# Altium footprint library PcbLib.PcbLib: 34 footprints (part 2 of 3)
Each footprint in its own frame and in the unit in brackets; x right, y up, seen from the top. Pads: shape width x height; smd on the part's side, far side on the other; paste and mask are expansions set on the pad; w line width, h text height; cw(c..) or ccw(c..) is an arc to the next point about the centre after c.
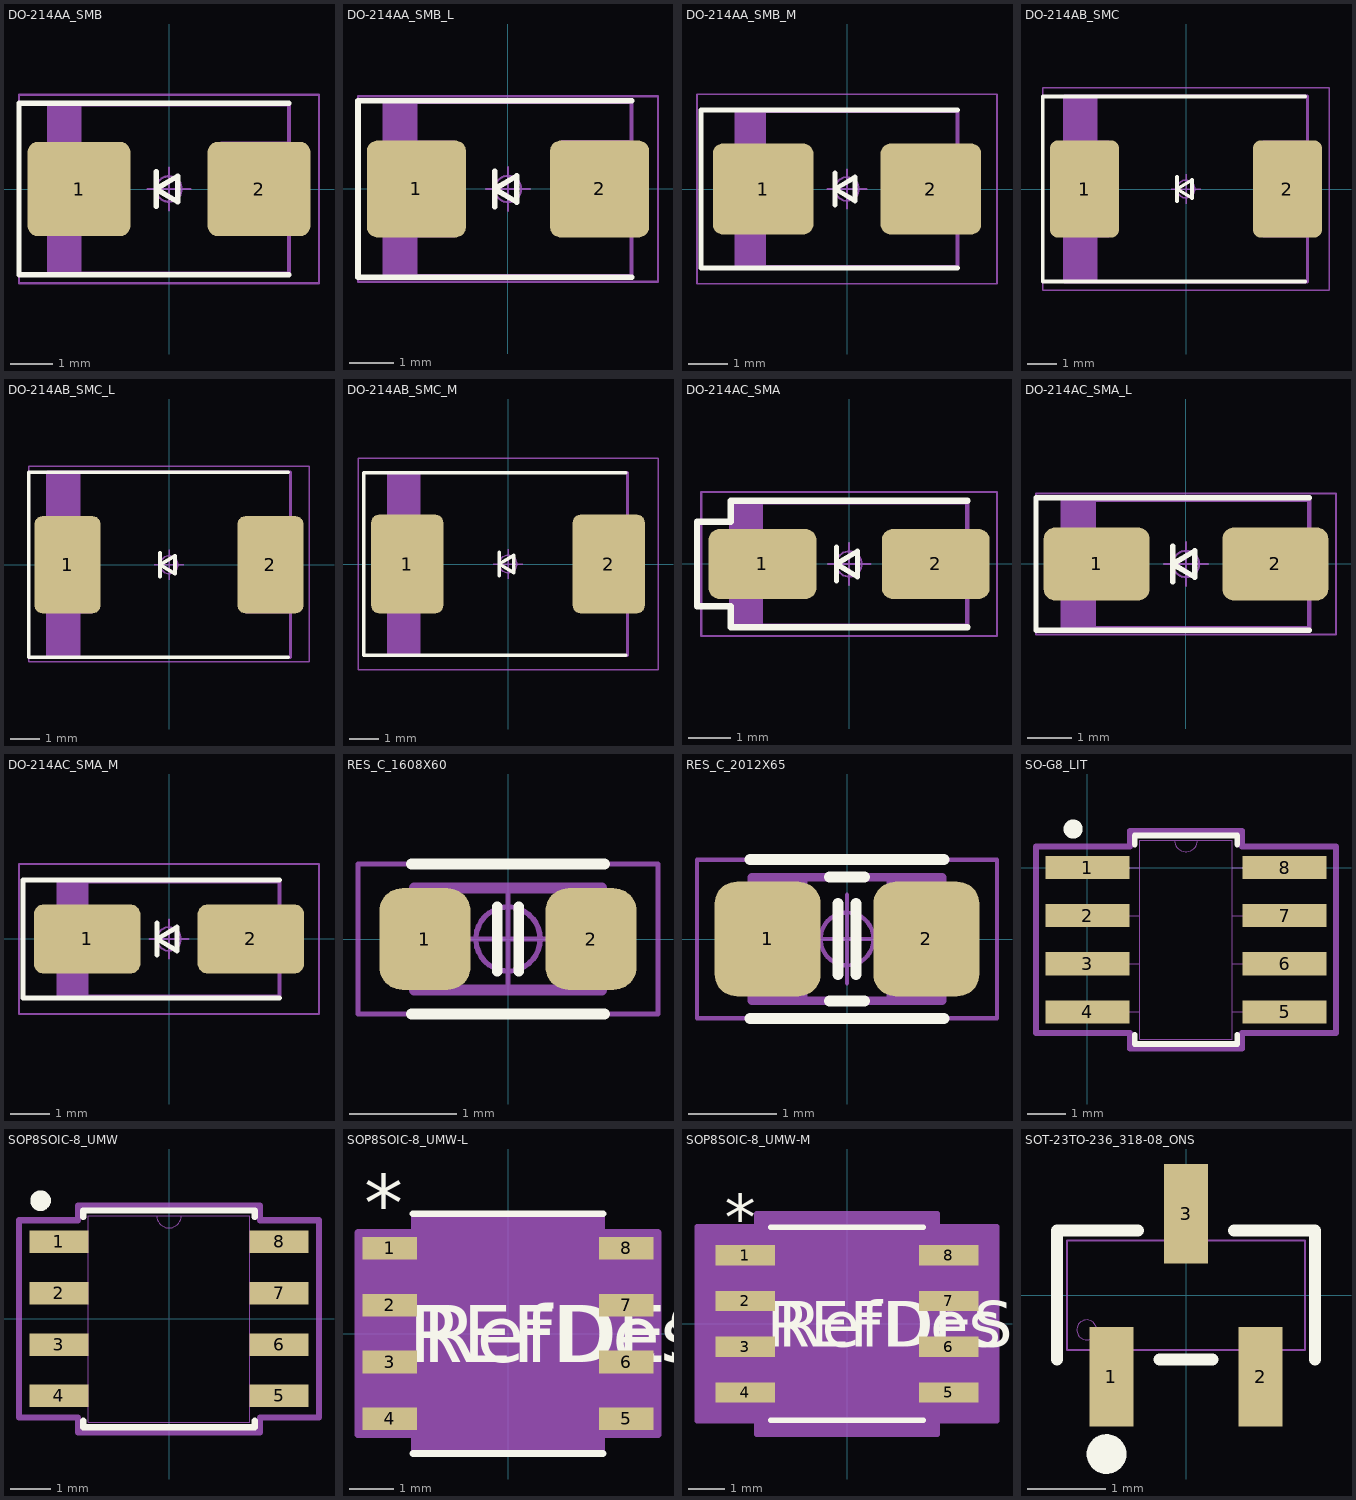
[diagram p1: the footprints below, top view; thin cyan lines are the x and y axes]

## DO-214AA_SMB [mm] "Molded Diode, 2-Leads, Body 5.40x3.63mm, IPC Medium Density"
height 2.47
pads (2):
  rrect22% 2.4x2.2 smd: 1(-2.1,0) 2(2.1,0)
Top Overlay:
  lines w0.12: 2.8,-2 -3.5,-2 -3.5,2 2.8,2
  lines w0.125: -0.3,-0.4 -0.3,0.4 ; -0.3,0 0.2,0.3 0.2,-0.3 -0.3,0
Top Assembly:
  rectangle: -2.8,-1.975 -2.047,1.975
  lines w0.1: -2.8,-1.975 -2.8,1.975 2.8,1.975 2.8,-1.975 -2.8,-1.975
  text "'.Designator'" at -3.952,-0.622 h1.5
Top Courtyard:
  lines w0.05: -3.5,-2.2 3.5,-2.2 3.5,2.2 -3.5,2.2 -3.5,-2.2
Top Component Outline:
  rectangle: -2.8,-1.1 -1.2,1.1
  region: 2.798,1.107 1.198,1.107 1.198,-1.093 2.798,-1.093
  lines w0.05: -2.8,-1.975 -2.8,1.975 2.8,1.975 2.8,-1.975 -2.8,-1.975
Top Component Center:
  circle w0.05: c0,0 r0.3
  lines w0.05: -0.5,0 0.5,0 ; 0,-0.5 0,0.5
3D body "5BT.STEP": height 2.44, standoff 0, extent -2.699,-1.81 2.699,1.81

## DO-214AA_SMB_L [mm] "Molded Diode, 2-Leads, Body 5.40x3.63mm, IPC Medium Density"
height 2.47
pads (2):
  rrect22% 2.25x2.2 smd: 1(-2.075,0) 2(2.075,0)
Top Overlay:
  lines w0.125: -0.3,-0.4 -0.3,0.4 ; 2.8,-2 -3.4,-2 -3.4,2 2.8,2 ; -0.3,0 0.2,-0.3 0.2,0.3 -0.3,0
Top Assembly:
  rectangle: -2.8,-1.975 -2.047,1.975
  lines w0.1: -2.8,-1.975 2.8,-1.975 2.8,1.975 -2.8,1.975 -2.8,-1.975
  text "'.Designator'" at -3.952,-0.622 h1.5
Top Courtyard:
  lines w0.05: -3.4,-2.1 3.4,-2.1 3.4,2.1 -3.4,2.1 -3.4,-2.1
Top Component Outline:
  rectangle: -2.8,-1.1 -1.2,1.1
  region: 2.798,1.107 1.198,1.107 1.198,-1.093 2.798,-1.093
  lines w0.05: -2.8,-1.975 -2.8,1.975 2.8,1.975 2.8,-1.975 -2.8,-1.975
Top Component Center:
  circle w0.05: c0,0 r0.3
  lines w0.05: -0.5,0 0.5,0 ; 0,-0.5 0,0.5
3D body "5BT.STEP": height 2.44, standoff 0, extent -2.699,-1.81 2.699,1.81

## DO-214AA_SMB_M [mm] "Molded Diode, 2-Leads, Body 5.40x3.63mm, IPC Medium Density"
height 2.47
pads (2):
  rrect21% 2.55x2.3 smd: 1(-2.125,0) 2(2.125,0)
Top Overlay:
  lines w0.125: -0.3,-0.4 -0.3,0.4 ; 2.8,-2 -3.7,-2 -3.7,2 2.8,2 ; -0.3,0 0.2,-0.3 0.2,0.3 -0.3,0
Top Assembly:
  rectangle: -2.8,-1.975 -2.047,1.975
  lines w0.1: -2.8,-1.975 -2.8,1.975 2.8,1.975 2.8,-1.975 -2.8,-1.975
  text "'.Designator'" at -3.952,-0.622 h1.5
Top Courtyard:
  lines w0.05: -3.8,-2.4 -3.8,2.4 3.8,2.4 3.8,-2.4 -3.8,-2.4
Top Component Outline:
  region: 2.798,1.107 1.198,1.107 1.198,-1.093 2.798,-1.093
  rectangle: -2.8,-1.1 -1.2,1.1
  lines w0.05: -2.8,-1.975 2.8,-1.975 2.8,1.975 -2.8,1.975 -2.8,-1.975
Top Component Center:
  circle w0.05: c0,0 r0.3
  lines w0.05: -0.5,0 0.5,0 ; 0,-0.5 0,0.5
3D body "5BT.STEP": height 2.44, standoff 0, extent -2.699,-1.81 2.699,1.81

## DO-214AB_SMC [mm] "Molded Diode, 2-Leads, Body 7.94x5.91mm, IPC Medium Density"
height 2.62
pads (2):
  rrect21% 2.3x3.25 smd: 1(-3.4,0) 2(3.4,0)
Top Overlay:
  lines w0.12: 4,-3.1 -4.8,-3.1 -4.8,3.1 4,3.1
  lines w0.125: -0.3,-0.4 -0.3,0.4 ; -0.3,0 0.2,-0.3 0.2,0.3 -0.3,0
Top Assembly:
  rectangle: -4.065,-3.11 -2.972,3.11
  lines w0.1: -4.065,-3.11 4.065,-3.11 4.065,3.11 -4.065,3.11 -4.065,-3.11
  text "'.Designator'" at -3.952,-0.622 h1.5
Top Courtyard:
  lines w0.05: -4.8,-3.4 4.8,-3.4 4.8,3.4 -4.8,3.4 -4.8,-3.4
Top Component Outline:
  region: 4.075,1.625 2.555,1.625 2.555,-1.625 4.075,-1.625
  rectangle: -4.075,-1.625 -2.555,1.625
  lines w0.05: -4.065,-3.11 4.065,-3.11 4.065,3.11 -4.065,3.11 -4.065,-3.11
Top Component Center:
  circle w0.05: c0,0 r0.3
  lines w0.05: -0.5,0 0.5,0 ; 0,-0.5 0,0.5
3D body "9AT.STEP": height 2.62, standoff 0, extent -3.969,-2.959 3.969,2.959

## DO-214AB_SMC_L [mm] "Molded Diode, 2-Leads, Body 7.94x5.91mm, IPC Medium Density"
height 2.62
pads (2):
  rrect22% 2.2x3.25 smd: 1(-3.4,0) 2(3.4,0)
Top Overlay:
  lines w0.12: 4,-3.1 -4.7,-3.1 -4.7,3.1 4,3.1
  lines w0.125: -0.3,-0.4 -0.3,0.4 ; -0.3,0 0.2,-0.3 0.2,0.3 -0.3,0
Top Assembly:
  rectangle: -4.065,-3.11 -2.972,3.11
  lines w0.1: -4.065,-3.11 4.065,-3.11 4.065,3.11 -4.065,3.11 -4.065,-3.11
  text "'.Designator'" at -3.952,-0.622 h1.5
Top Courtyard:
  lines w0.05: -4.7,-3.25 -4.7,3.3 4.7,3.3 4.7,-3.25 -4.7,-3.25
Top Component Outline:
  region: 4.075,1.625 2.555,1.625 2.555,-1.625 4.075,-1.625
  rectangle: -4.075,-1.625 -2.555,1.625
  lines w0.05: -4.065,-3.11 4.065,-3.11 4.065,3.11 -4.065,3.11 -4.065,-3.11
Top Component Center:
  circle w0.05: c0,0 r0.3
  lines w0.05: -0.5,0 0.5,0 ; 0,-0.5 0,0.5
3D body "9AT.STEP": height 2.62, standoff 0, extent -3.969,-2.959 3.969,2.959

## DO-214AB_SMC_M [mm] "Molded Diode, 2-Leads, Body 7.94x5.91mm, IPC Medium Density"
height 2.62
pads (2):
  rrect20% 2.45x3.35 smd: 1(-3.425,0) 2(3.425,0)
Top Overlay:
  lines w0.125: -0.3,-0.4 -0.3,0.4 ; 4,-3.1 -4.9,-3.1 -4.9,3.1 4,3.1 ; -0.3,0 0.2,-0.3 0.2,0.3 -0.3,0
Top Assembly:
  rectangle: -4.065,-3.11 -2.972,3.11
  lines w0.1: -4.065,-3.11 4.065,-3.11 4.065,3.11 -4.065,3.11 -4.065,-3.11
  text "'.Designator'" at -3.952,-0.622 h1.5
Top Courtyard:
  lines w0.05: -5.1,-3.6 -5.1,3.6 5.1,3.6 5.1,-3.6 -5.1,-3.6
Top Component Outline:
  region: 4.075,1.625 2.555,1.625 2.555,-1.625 4.075,-1.625
  rectangle: -4.075,-1.625 -2.555,1.625
  lines w0.05: -4.065,-3.11 4.065,-3.11 4.065,3.11 -4.065,3.11 -4.065,-3.11
Top Component Center:
  circle w0.05: c0,0 r0.3
  lines w0.05: -0.5,0 0.5,0 ; 0,-0.5 0,0.5
3D body "9AT.STEP": height 2.62, standoff 0, extent -3.969,-2.959 3.969,2.959

## DO-214AC_SMA [mm] "Molded Diode, 2-Leads, Body 5.20x2.61mm, IPC Medium Density"
height 2.4
pads (2):
  rrect30% 2.55x1.65 smd: 1(-2.05,0) 2(2.05,0)
Top Overlay:
  lines w0.125: -0.3,-0.4 -0.3,0.4 ; -0.3,0 0.2,-0.3 0.2,0.3 -0.3,0
  lines w0.15: 2.8,-1.5 -2.8,-1.5 -2.8,-1.4 -2.8,-1 -3.6,-1 -3.6,1 -2.8,1 -2.8,1.5 2.8,1.5
Top Assembly:
  rectangle: -2.795,-1.46 -2.043,1.46
  lines w0.1: -2.795,-1.46 -2.795,1.46 2.795,1.46 2.795,-1.46 -2.795,-1.46
  text "'.Designator'" at -3.952,-0.622 h1.5
Top Courtyard:
  lines w0.05: -3.5,-1.7 -3.5,1.7 3.5,1.7 3.5,-1.7 -3.5,-1.7
Top Component Outline:
  rectangle: -2.8,-0.815 -1.28,0.815
  region: 2.8,0.815 1.28,0.815 1.28,-0.815 2.8,-0.815
  lines w0.05: -2.795,-1.46 -2.795,1.46 2.795,1.46 2.795,-1.46 -2.795,-1.46
Top Component Center:
  circle w0.05: c0,0 r0.3
  lines w0.05: -0.5,0 0.5,0 ; 0,-0.5 0,0.5
3D body "SMAJ12A-13-F.step": height 2.4, standoff 0, extent -2.598,-1.302 2.598,1.302

## DO-214AC_SMA_L [mm] "Molded Diode, 2-Leads, Body 5.20x2.61mm, IPC Medium Density"
height 2.4
pads (2):
  rrect30% 2.4x1.65 smd: 1(-2.025,0) 2(2.025,0)
Top Overlay:
  lines w0.12: 2.8,-1.5 -3.4,-1.5 -3.4,1.5 2.8,1.5
  lines w0.125: -0.3,-0.4 -0.3,0.4 ; -0.3,0 0.2,-0.3 0.2,0.3 -0.3,0
Top Assembly:
  rectangle: -2.795,-1.46 -2.043,1.46
  lines w0.1: -2.795,-1.46 -2.795,1.46 2.795,1.46 2.795,-1.46 -2.795,-1.46
  text "'.Designator'" at -3.952,-0.622 h1.5
Top Courtyard:
  lines w0.05: -3.4,-1.6 3.4,-1.6 3.4,1.6 -3.4,1.6 -3.4,-1.6
Top Component Outline:
  rectangle: -2.8,-0.815 -1.28,0.815
  region: 2.8,0.815 1.28,0.815 1.28,-0.815 2.8,-0.815
  lines w0.05: -2.795,-1.46 -2.795,1.46 2.795,1.46 2.795,-1.46 -2.795,-1.46
Top Component Center:
  circle w0.05: c0,0 r0.3
  lines w0.05: -0.5,0 0.5,0 ; 0,-0.5 0,0.5
3D body "SMAJ12A-13-F.step": height 2.4, standoff 0, extent -2.598,-1.302 2.598,1.302

## DO-214AC_SMA_M [mm] "Molded Diode, 2-Leads, Body 5.20x2.61mm, IPC Medium Density"
height 2.4
pads (2):
  rrect28% 2.7x1.75 smd: 1(-2.075,0) 2(2.075,0)
Top Overlay:
  lines w0.125: -0.3,-0.4 -0.3,0.4 ; 2.8,-1.5 -3.7,-1.5 -3.7,1.5 2.8,1.5 ; -0.3,0 0.2,0.3 0.2,-0.3 -0.3,0
Top Assembly:
  rectangle: -2.795,-1.46 -2.043,1.46
  lines w0.1: -2.795,-1.46 2.795,-1.46 2.795,1.46 -2.795,1.46 -2.795,-1.46
  text "'.Designator'" at -3.952,-0.622 h1.5
Top Courtyard:
  lines w0.05: -3.8,-1.9 -3.8,1.9 3.8,1.9 3.8,-1.9 -3.8,-1.9
Top Component Outline:
  region: 2.8,0.815 1.28,0.815 1.28,-0.815 2.8,-0.815
  rectangle: -2.8,-0.815 -1.28,0.815
  lines w0.05: -2.795,-1.46 2.795,-1.46 2.795,1.46 -2.795,1.46 -2.795,-1.46
Top Component Center:
  circle w0.05: c0,0 r0.3
  lines w0.05: -0.5,0 0.5,0 ; 0,-0.5 0,0.5
3D body "SMAJ12A-13-F.step": height 2.4, standoff 0, extent -2.598,-1.302 2.598,1.302

## RES_C_1608X60 [mm] "Chip Resistor, 2-Leads, Body 1.63x0.83mm, IPC High Density"
height 0.6
pads (2):
  rrect50% 0.85x0.95 smd: 1(-0.775,0) 2(0.775,0)
Top Overlay:
  lines w0.1: -0.9,-0.7 0.9,-0.7 ; -0.9,0.7 0.9,0.7 ; -0.1,-0.3 -0.1,0.3 ; 0.1,-0.3 0.1,0.3
Top Assembly:
  lines w0.1: -0.875,-0.475 0.875,-0.475 0.875,0.475 -0.875,0.475 -0.875,-0.475
  text "'.Designator'" at -4.217,-0.663 h1.6
Top Courtyard:
  lines w0.05: -1.4,-0.7 1.4,-0.7 1.4,0.7 -1.4,0.7 -1.4,-0.7
Top Component Outline:
  rectangle: 0.475,-0.475 0.875,0.475
  rectangle: -0.875,-0.475 -0.475,0.475
  lines w0.05: -0.875,-0.475 -0.875,0.475 0.875,0.475 0.875,-0.475 -0.875,-0.475
Top Component Center:
  circle w0.05: c0,0 r0.3
  lines w0.05: -0.5,0 0.5,0 ; 0,-0.5 0,0.5
3D body "RESC1608X60.step": height 0.6, standoff 0, extent -0.875,-0.475 0.875,0.475

## RES_C_2012X65 [mm] "Chip Resistor, 2-Leads, Body 2.00x1.25mm, IPC High Density"
height 0.65
pads (2):
  rrect41% 1.2x1.3 smd: 1(-0.9,0) 2(0.9,0)
Top Overlay:
  lines w0.125: -1.1,-0.9 1.1,-0.9 ; -1.1,0.9 1.1,0.9 ; -0.2,-0.7 0.2,-0.7 ; -0.2,0.7 0.2,0.7 ; -0.1,-0.4 -0.1,0.4 ; 0.1,-0.4 0.1,0.4
Top Assembly:
  lines w0.1: -1.075,-0.7 -1.075,0.7 1.075,0.7 1.075,-0.7 -1.075,-0.7
  text "'.Designator'" at -4.217,-0.663 h1.6
Top Courtyard:
  lines w0.05: -1.7,-0.9 -1.7,0.9 1.7,0.9 1.7,-0.9 -1.7,-0.9
Top Component Outline:
  region: 1.1,0.7 0.45,0.7 0.45,-0.7 1.1,-0.7
  rectangle: -1.1,-0.7 -0.45,0.7
  lines w0.05: -1.1,-0.7 1.1,-0.7 1.1,0.7 -1.1,0.7 -1.1,-0.7
Top Component Center:
  circle w0.05: c0,0 r0.3
  lines w0.05: -0.5,0 0.5,0 ; 0,-0.5 0,0.5
3D body "RESC2012X65.step": height 0.65, standoff 0, extent -1.075,-0.7 1.075,0.7

## SO-G8_LIT [mil]
pads (8):
  rect 87x24 smd paste+0 mask+0: 1(0,0) 2(0,-50) 3(0,-100) 4(0,-150) 5(204.7,-150) 6(204.7,-100) 7(204.7,-50) 8(204.7,0)
Top Overlay:
  circle w10: c-15,40 r5
  lines w6: 49.13,-173.83 49.13,-183.32 155.57,-183.32 155.57,-173.83 ; 49.13,23.83 49.13,33.32 155.57,33.32 155.57,23.83
Mechanical 13:
  lines w1: 90.35,28.32 ccw(c102.35,28.32) 114.35,28.32 ; 0,-150 54.13,-150 0,-150 ; 0,-100 54.13,-100 0,-100 ; 0,-50 54.13,-50 0,-50 ; 0,0 54.13,0 0,0 ; 54.13,-178.32 150.57,-178.32 150.57,28.32 54.13,28.32 54.13,-178.32 ; 150.57,-150 204.7,-150 150.57,-150 ; 150.57,-100 204.7,-100 150.57,-100 ; 150.57,-50 204.7,-50 150.57,-50 ; 150.57,0 204.7,0 150.57,0
Mechanical 15:
  lines w6: -53.5,-172 -53.5,22 44.13,22 44.13,38.32 160.57,38.32 160.57,22 258.2,22 258.2,-172 160.57,-172 160.57,-188.32 44.13,-188.32 44.13,-172 -53.5,-172
3D body "SO-G8_LIT.step": height 205.12, standoff -100, extent -5,-178.31 219.69,28.31

## SOP8SOIC-8_UMW [mil]
pads (8):
  rect 57.5x22 smd paste+0 mask+0: 1(-107.25,75) 2(-107.25,25) 3(-107.25,-25) 4(-107.25,-75) 5(107.25,-75) 6(107.25,-25) 7(107.25,25) 8(107.25,75)
Top Overlay:
  circle w10: c-125,115 r5
  lines w6: -83.5,-99.1 -83.5,-105.5 83.5,-105.5 83.5,-99.1 ; -83.5,99.1 -83.5,105.5 83.5,105.5 83.5,99.1
Mechanical 13:
  lines w0: -12,100.5 ccw(c0,100.5) 12,100.5
  lines w1: -122,-85 -78.5,-85 -78.5,-65 -122,-65 -122,-85 ; -122,-35 -78.5,-35 -78.5,-15 -122,-15 -122,-35 ; -122,15 -78.5,15 -78.5,35 -122,35 -122,15 ; -122,65 -78.5,65 -78.5,85 -122,85 -122,65 ; -78.5,-100.5 -78.5,100.5 78.5,100.5 78.5,-100.5 -78.5,-100.5 ; 78.5,-85 122,-85 122,-65 78.5,-65 78.5,-85 ; 78.5,-35 122,-35 122,-15 78.5,-15 78.5,-35 ; 78.5,15 122,15 122,35 78.5,35 78.5,15 ; 78.5,65 122,65 122,85 78.5,85 78.5,65
  text "*" at -76,47.5 h50
Mechanical 15:
  lines w6: -146,-96 -88.5,-96 -88.5,-110.5 88.5,-110.5 88.5,-96 146,-96 146,96 88.5,96 88.5,110.5 -88.5,110.5 -88.5,96 -146,96 -146,-96
3D body "SOP8SOIC-8_UMW.step": height 69.09, standoff 0, extent -122.01,-100.51 122.01,100.51

## SOP8SOIC-8_UMW-L [mil]
pads (8):
  rect 48x20 smd paste+0 mask+0: 1(-104,75) 2(-104,25) 3(-104,-25) 4(-104,-75) 5(104,-75) 6(104,-25) 7(104,25) 8(104,75)
Top Overlay:
  lines w6: -83.5,-105.5 83.5,-105.5 ; -83.5,105.5 83.5,105.5
  text "REFDES" at -87.5,-25 h50
  text "*" at -126.5,90 h50
  text "RefDes" at -75,-25 h50
Mechanical 13:
  lines w0: -12,100.5 ccw(c0,100.5) 12,100.5
  lines w1: -122,-85 -122,-65 -78.5,-65 -78.5,-85 -122,-85 ; -122,-35 -122,-15 -78.5,-15 -78.5,-35 -122,-35 ; -122,15 -122,35 -78.5,35 -78.5,15 -122,15 ; -122,65 -122,85 -78.5,85 -78.5,65 -122,65 ; -78.5,-100.5 78.5,-100.5 78.5,100.5 -78.5,100.5 -78.5,-100.5 ; 78.5,-85 78.5,-65 122,-65 122,-85 78.5,-85 ; 78.5,-35 78.5,-15 122,-15 122,-35 78.5,-35 ; 78.5,15 78.5,35 122,35 122,15 78.5,15 ; 78.5,65 78.5,85 122,85 122,65 78.5,65
  text "*" at -76,47.5 h50
  text "RefDes2" at -87.5,-25 h50
Mechanical 15:
  region: -82.5,-89 -132,-89 -132,89 -82.5,89 -82.5,104.5 82.5,104.5 82.5,89 132,89 132,-89 82.5,-89 82.5,-104.5 -82.5,-104.5
  lines w6: -132,-89 -132,89 -82.5,89 -82.5,104.5 82.5,104.5 82.5,89 132,89 132,-89 82.5,-89 82.5,-104.5 -82.5,-104.5 -82.5,-89 -132,-89
3D body "SOP8SOIC-8_UMW.step": height 69.09, standoff 0, extent -122.01,-100.51 122.01,100.51

## SOP8SOIC-8_UMW-M [mil]
pads (8):
  rect 65.5x22 smd paste+0 mask+0: 1(-111.25,75) 2(-111.25,25) 3(-111.25,-25) 4(-111.25,-75) 5(111.25,-75) 6(111.25,-25) 7(111.25,25) 8(111.25,75)
Top Overlay:
  lines w6: -83.5,-105.5 83.5,-105.5 ; -83.5,105.5 83.5,105.5
  text "REFDES" at -87.5,-25 h50
  text "*" at -133.75,92 h50
  text "RefDes" at -75,-25 h50
Mechanical 13:
  lines w0: -12,100.5 ccw(c0,100.5) 12,100.5
  lines w1: -122,-85 -122,-65 -78.5,-65 -78.5,-85 -122,-85 ; -122,-35 -122,-15 -78.5,-15 -78.5,-35 -122,-35 ; -122,15 -122,35 -78.5,35 -78.5,15 -122,15 ; -122,65 -122,85 -78.5,85 -78.5,65 -122,65 ; -78.5,-100.5 78.5,-100.5 78.5,100.5 -78.5,100.5 -78.5,-100.5 ; 78.5,-85 78.5,-65 122,-65 122,-85 78.5,-85 ; 78.5,-35 78.5,-15 122,-15 122,-35 78.5,-35 ; 78.5,15 78.5,35 122,35 122,15 78.5,15 ; 78.5,65 78.5,85 122,85 122,65 78.5,65
  text "*" at -76,47.5 h50
  text "RefDes2" at -87.5,-25 h50
Mechanical 15:
  region: -98.5,-106 -164,-106 -164,106 -98.5,106 -98.5,120.5 98.5,120.5 98.5,106 164,106 164,-106 98.5,-106 98.5,-120.5 -98.5,-120.5
  lines w6: -164,-106 -164,106 -98.5,106 -98.5,120.5 98.5,120.5 98.5,106 164,106 164,-106 98.5,-106 98.5,-120.5 -98.5,-120.5 -98.5,-106 -164,-106
3D body "SOP8SOIC-8_UMW.step": height 69.09, standoff 0, extent -122.01,-100.51 122.01,100.51

## SOT-23TO-236_318-08_ONS [mil]
pads (3):
  rect 22x50 smd paste+0 mask+0: 1(-37.5,-41) 2(37.5,-41) 3(0,41)
Top Overlay:
  circle w10: c-40,-80 r5
  lines w6: -65,-32.5 -65,32.5 -24.1,32.5 ; -13.4,-32.5 13.4,-32.5 ; 24.1,32.5 65,32.5 65,-32.5
Mechanical 13:
  circle w0: c-50,-17.5 r5
  lines w1: -60,-27.5 60,-27.5 60,27.5 -60,27.5 -60,-27.5 ; -47.5,-52 -47.5,-27.5 -27.5,-27.5 -27.5,-52 -47.5,-52 ; -10,27.5 10,27.5 10,52 -10,52 -10,27.5 ; 27.5,-52 27.5,-27.5 47.5,-27.5 47.5,-52 27.5,-52
3D body "SOT-23TO-236_318-08_ONS.step": height 44.09, standoff 0, extent -60,-52.01 60,52.01